# Altium footprint library Header.PcbLib: 40 footprints (part 2 of 3)
Each footprint in its own frame and in the unit in brackets; x right, y up, seen from the top. Pads: shape width x height; smd on the part's side, far side on the other; paste and mask are expansions set on the pad; w line width, h text height; cw(c..) or ccw(c..) is an arc to the next point about the centre after c.
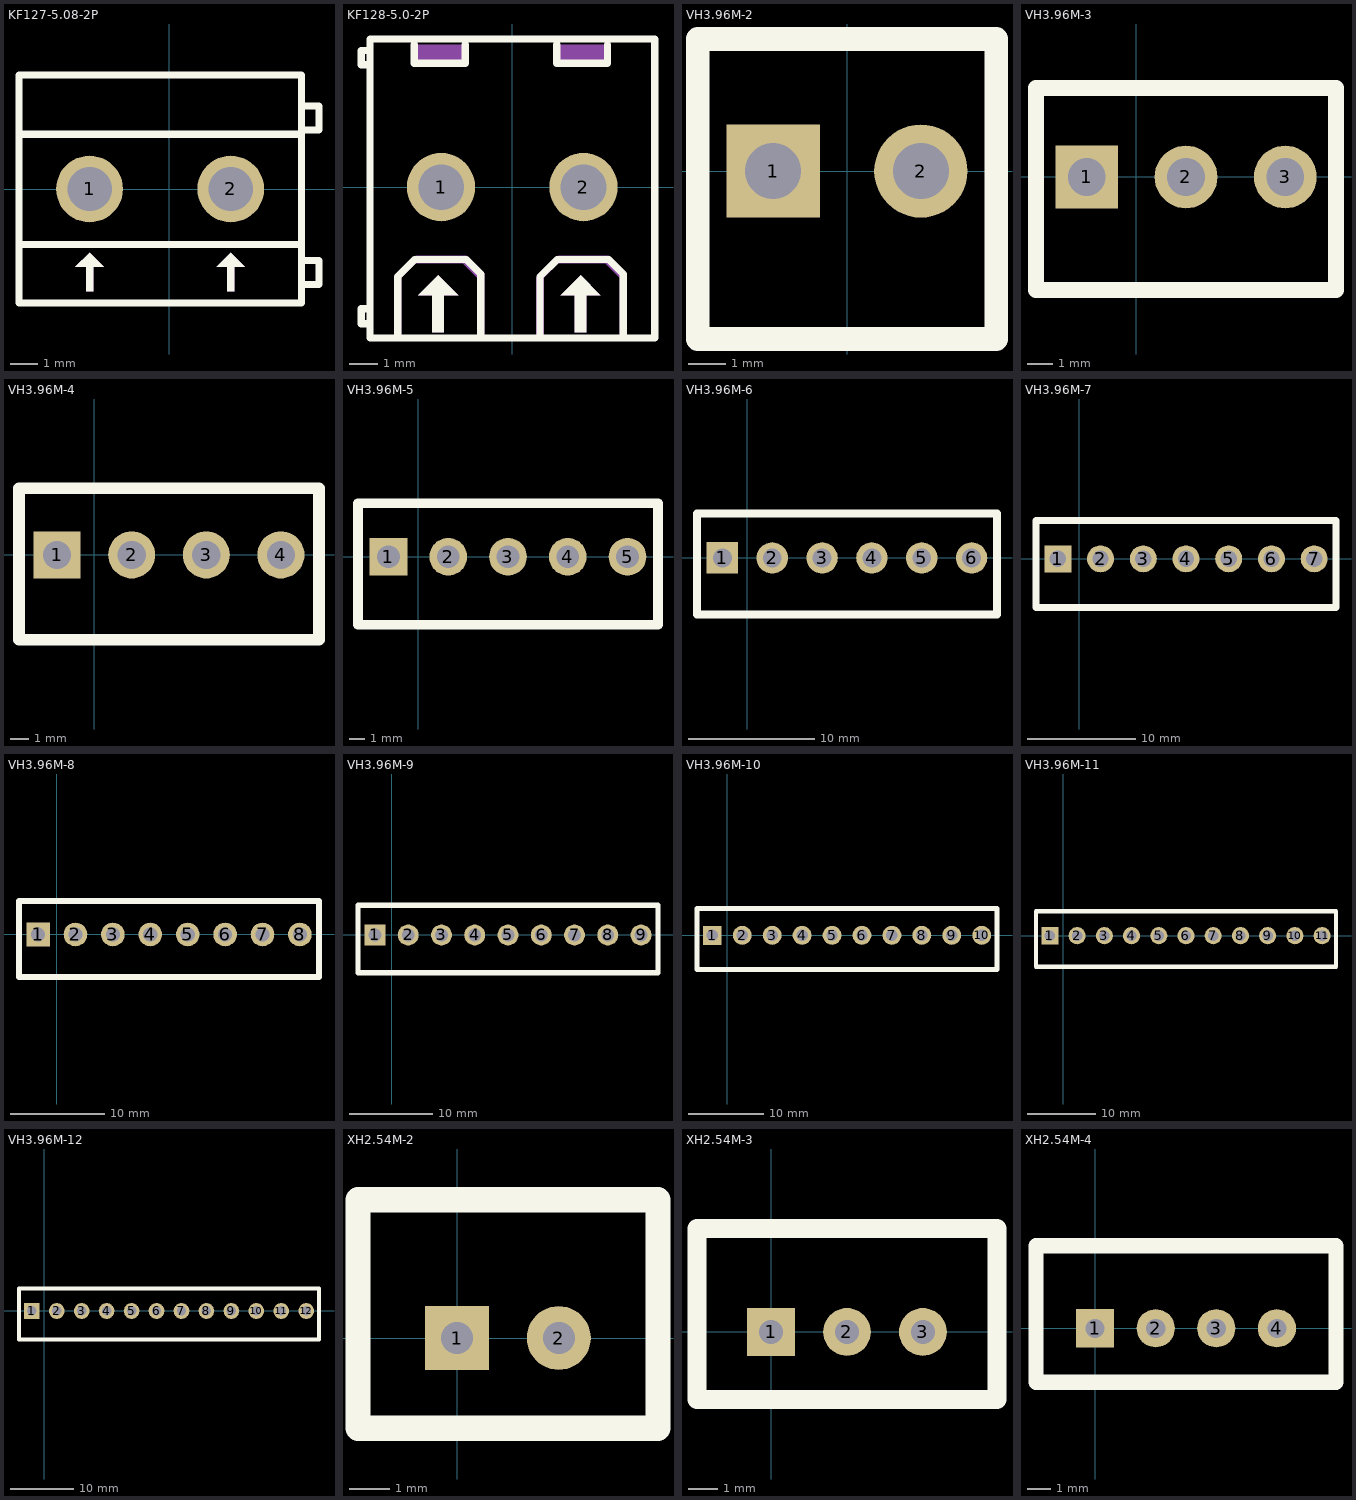
[diagram p1: the footprints below, top view; thin cyan lines are the x and y axes]

## KF127-5.08-2P [mm] "1.5 1x2P 14~26 Green -40℃~+105℃ 15A 250V Through Hole 5.08mm 1 2 Through Hole,P=5.08mm Wire to Board RoHS"
pads (2):
  round 2.4 hole 1.6 paste-2539.97 mask+0.051: 1(-2.857,0) 2(2.222,0)
Top Overlay:
  region: 2.222,-2.286 1.714,-2.794 2.095,-2.794 2.095,-3.683 2.349,-3.683 2.349,-2.794 2.73,-2.794
  region: -2.857,-2.286 -3.365,-2.794 -2.984,-2.794 -2.984,-3.683 -2.73,-3.683 -2.73,-2.794 -2.349,-2.794
  lines w0.254: -5.397,-1.993 4.763,-1.993 ; -5.397,1.97 4.763,1.97 ; 4.763,-3.429 5.397,-3.429 5.397,-2.572 4.763,-2.572 ; 4.763,2.127 5.397,2.127 5.397,2.984 4.763,2.984 ; -5.397,-4.1 4.763,-4.1 4.763,4.1 -5.397,4.1 -5.397,-4.1
Mechanical 15:
  region: 2.222,-2.286 1.714,-2.794 2.095,-2.794 2.095,-3.683 2.349,-3.683 2.349,-2.794 2.73,-2.794
  region: -2.857,-2.286 -3.365,-2.794 -2.984,-2.794 -2.984,-3.683 -2.73,-3.683 -2.73,-2.794 -2.349,-2.794
3D body "DG127-5.08-02P-4Y-00AH.STEP": height 10.1, standoff -4, extent -5.432,-3.937 5.228,4.163

## KF128-5.0-2P [mm] "2.5 1x2P 12~22 Green 24A -40?~+105? 250V Through Hole 5mm 1 2 Through Hole,P=5mm Wire to Board RoHS"
pads (2):
  round 2.4 hole 1.6 paste-2539.97 mask+0.051: 1(-2.5,0) 2(2.5,0)
Top Overlay:
  region: -2.803,-3.9 -2.803,-5.1 -2.503,-5.1 -2.403,-5.1 -2.403,-3.7 -2.803,-3.7
  region: -2.603,-3.1 -3.303,-3.8 -1.903,-3.8
  region: 2.197,-3.9 2.197,-5.1 2.497,-5.1 2.597,-5.1 2.597,-3.7 2.197,-3.7
  region: 2.397,-3.1 1.697,-3.8 3.097,-3.8
  lines w0.254: -5,-4.8 -5.3,-4.8 -5.3,-4.268 -5,-4.268 ; -5,4.265 -5.035,4.3 -5.3,4.3 -5.3,4.8 -5,4.8 ; -5,5.2 5,5.2 5,-5.3 -5,-5.3 -5,5.2 ; -4.025,-5.301 -4.025,-3.142 -3.423,-2.54 -1.612,-2.54 -1.104,-3.048 -1.104,-5.301 ; -3.442,5 -3.442,4.35 -1.653,4.35 -1.653,5 ; 0.975,-5.301 0.975,-3.142 1.577,-2.54 3.388,-2.54 3.896,-3.048 3.896,-5.301 ; 1.558,5 1.558,4.35 3.347,4.35 3.347,5
Mechanical 15:
  region: -2.603,-3.1 -3.303,-3.8 -1.903,-3.8
  region: -2.803,-3.9 -2.803,-5.1 -2.503,-5.1 -2.403,-5.1 -2.403,-3.7 -2.803,-3.7
  region: -4.151,-5.334 -4.151,-3.175 -3.389,-2.413 -1.611,-2.413 -0.976,-3.048 -0.976,-5.334 -1.23,-5.334 -1.23,-3.175 -1.611,-2.794 -1.738,-2.667 -3.389,-2.667 -3.897,-3.175 -3.897,-5.334
  region: -3.403,5 -3.403,4.3 -1.653,4.3 -1.653,5
  region: 2.397,-3.1 1.697,-3.8 3.097,-3.8
  region: 2.197,-3.9 2.197,-5.1 2.497,-5.1 2.597,-5.1 2.597,-3.7 2.197,-3.7
  region: 0.849,-5.334 0.849,-3.175 1.611,-2.413 3.389,-2.413 4.024,-3.048 4.024,-5.334 3.77,-5.334 3.77,-3.175 3.389,-2.794 3.262,-2.667 1.611,-2.667 1.103,-3.175 1.103,-5.334
  region: 1.597,5 1.597,4.3 3.347,4.3 3.347,5
3D body "KF128-5.08-2P.STEP": height 14.22, standoff -3.73, extent -4.999,-4.966 5.761,5.334

## VH3.96M-2 [mm]
pads (2):
  rect 2.5x2.5 hole 1.5: 1(-1.98,0)
  round 2.5 hole 1.5: 2(1.98,0)
Top Overlay:
  lines w0.635: 3.96,3.5 4,3.54 ; 4,3.54 -4,3.54 -4,-4.5 4,-4.5 4,3.54
3D body "VH3.96M-2.STEP": height 10.26, standoff -3.19, extent -4.08,-4.49 3.96,3.88

## VH3.96M-3 [mm]
pads (3):
  rect 2.5x2.5 hole 1.5: 1(-1.98,0)
  round 2.5 hole 1.5: 2(1.98,0) 3(5.94,0)
Top Overlay:
  lines w0.635: -4,-4.5 7.96,-4.5 7.96,3.54 -4,3.54 -4,-4.5
3D body "VH3.96M-3.STEP": height 10.26, standoff -3.19, extent -4.08,-4.49 7.92,3.88

## VH3.96M-4 [mm]
pads (4):
  rect 2.5x2.5 hole 1.5: 1(-1.98,0)
  round 2.5 hole 1.5: 2(1.98,0) 3(5.94,0) 4(9.9,0)
Top Overlay:
  lines w0.635: -4,-4.5 -4,3.54 11.92,3.54 11.92,-4.5 -4,-4.5
3D body "VH3.96M-4.STEP": height 10.26, standoff -3.19, extent -4.08,-4.49 11.88,3.88

## VH3.96M-5 [mm]
pads (5):
  rect 2.5x2.5 hole 1.5: 1(-1.98,0)
  round 2.5 hole 1.5: 2(1.98,0) 3(5.94,0) 4(9.9,0) 5(13.86,0)
Top Overlay:
  lines w0.635: -4,-4.5 15.88,-4.5 15.88,3.54 -4,3.54 -4,-4.5
3D body "VH3.96M-5.STEP": height 10.26, standoff -3.19, extent -4.08,-4.49 15.84,3.88

## VH3.96M-6 [mm]
pads (6):
  rect 2.5x2.5 hole 1.5: 1(-1.98,0)
  round 2.5 hole 1.5: 2(1.98,0) 3(5.94,0) 4(9.9,0) 5(13.86,0) 6(17.82,0)
Top Overlay:
  lines w0.635: -4,-4.5 19.84,-4.5 19.84,3.54 -4,3.54 -4,-4.5
3D body "VH3.96M-6.STEP": height 10.26, standoff -3.19, extent -4.08,-4.49 19.8,3.88

## VH3.96M-7 [mm]
pads (7):
  rect 2.5x2.5 hole 1.5: 1(-1.98,0)
  round 2.5 hole 1.5: 2(1.98,0) 3(5.94,0) 4(9.9,0) 5(13.86,0) 6(17.82,0) 7(21.78,0)
Top Overlay:
  lines w0.635: -4,-4.5 23.8,-4.5 23.8,3.54 -4,3.54 -4,-4.5
3D body "VH3.96M-7.STEP": height 10.26, standoff -3.19, extent -4.08,-4.49 23.76,3.88

## VH3.96M-8 [mm]
pads (8):
  rect 2.5x2.5 hole 1.5: 1(-1.98,0)
  round 2.5 hole 1.5: 2(1.98,0) 3(5.94,0) 4(9.9,0) 5(13.86,0) 6(17.82,0) 7(21.78,0) 8(25.74,0)
Top Overlay:
  lines w0.635: -4,-4.5 -4,3.54 27.76,3.54 27.76,-4.5 -4,-4.5
3D body "VH3.96M-8.STEP": height 10.26, standoff -3.19, extent -4.08,-4.49 27.72,3.88

## VH3.96M-9 [mm]
pads (9):
  rect 2.5x2.5 hole 1.5: 1(-1.98,0)
  round 2.5 hole 1.5: 2(1.98,0) 3(5.94,0) 4(9.9,0) 5(13.86,0) 6(17.82,0) 7(21.78,0) 8(25.74,0) 9(29.7,0)
Top Overlay:
  lines w0.635: -4,-4.5 -4,3.54 31.72,3.54 31.72,-4.5 -4,-4.5
3D body "VH3.96M-9.STEP": height 10.26, standoff -3.19, extent -4.08,-4.49 31.68,3.88

## VH3.96M-10 [mm]
pads (10):
  rect 2.5x2.5 hole 1.5: 1(-1.98,0)
  round 2.5 hole 1.5: 2(1.98,0) 3(5.94,0) 4(9.9,0) 5(13.86,0) 6(17.82,0) 7(21.78,0) 8(25.74,0) 9(29.7,0) 10(33.66,0)
Top Overlay:
  lines w0.635: -4,-4.5 35.68,-4.5 35.68,3.54 -4,3.54 -4,-4.5
3D body "VH3.96M-10.STEP": height 10.26, standoff -3.19, extent -4.08,-4.49 35.64,3.88

## VH3.96M-11 [mm]
pads (11):
  rect 2.5x2.5 hole 1.5: 1(-1.98,0)
  round 2.5 hole 1.5: 2(1.98,0) 3(5.94,0) 4(9.9,0) 5(13.86,0) 6(17.82,0) 7(21.78,0) 8(25.74,0) 9(29.7,0) 10(33.66,0) 11(37.62,0)
Top Overlay:
  lines w0.635: -4,-4.5 -4,3.54 39.64,3.54 39.64,-4.5 -4,-4.5
3D body "VH3.96M-11.STEP": height 10.26, standoff -3.19, extent -4.08,-4.49 39.6,3.88

## VH3.96M-12 [mm]
pads (12):
  rect 2.5x2.5 hole 1.5: 1(-1.98,0)
  round 2.5 hole 1.5: 2(1.98,0) 3(5.94,0) 4(9.9,0) 5(13.86,0) 6(17.82,0) 7(21.78,0) 8(25.74,0) 9(29.7,0) 10(33.66,0) 11(37.62,0) 12(41.58,0)
Top Overlay:
  lines w0.635: -4,-4.5 -4,3.54 43.6,3.54 43.6,-4.5 -4,-4.5
3D body "VH3.96M-12.STEP": height 10.26, standoff -3.19, extent -4.08,-4.49 43.56,3.88

## XH2.54M-2 [mm]
pads (2):
  rect 1.6x1.6 hole 0.8: 1(0,0)
  round 1.6 hole 0.8: 2(2.54,0)
Top Overlay:
  lines w0.635: -2.48,-2.26 5.02,-2.26 5.02,3.46 -2.48,3.46 -2.48,-2.26
3D body "XH2.54M-2.STEP": height 6.91, standoff -1.82, extent -2.48,-2.26 5.02,3.48

## XH2.54M-3 [mm]
pads (3):
  rect 1.6x1.6 hole 0.8: 1(0,0)
  round 1.6 hole 0.8: 2(2.54,0) 3(5.08,0)
Top Overlay:
  lines w0.635: -2.48,-2.26 7.56,-2.26 7.56,3.46 -2.48,3.46 -2.48,-2.26
3D body "XH2.54M-3.STEP": height 6.91, standoff -1.82, extent -2.48,-2.26 7.56,3.48

## XH2.54M-4 [mm]
pads (4):
  rect 1.6x1.6 hole 0.8: 1(0,0)
  round 1.6 hole 0.8: 2(2.54,0) 3(5.08,0) 4(7.62,0)
Top Overlay:
  lines w0.635: -2.48,-2.26 10.1,-2.26 10.1,3.46 -2.48,3.46 -2.48,-2.26
3D body "XH2.54M-4.STEP": height 6.91, standoff -1.82, extent -2.48,-2.26 10.1,3.48